# Altium footprint library EVP-ADK04K.PcbLib: 1 footprints
Each footprint in its own frame and in the unit in brackets; x right, y up, seen from the top. Pads: shape width x height; smd on the part's side, far side on the other; paste and mask are expansions set on the pad; w line width, h text height; cw(c..) or ccw(c..) is an arc to the next point about the centre after c.
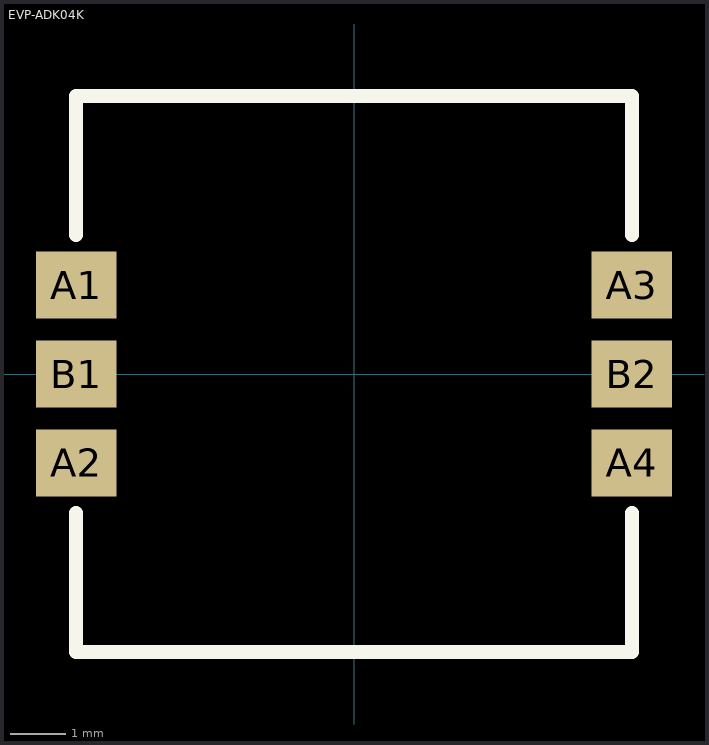
[diagram p0: the footprint, top view; thin cyan lines are the x and y axes]

## EVP-ADK04K [mm]
pads (6):
  rect 1.45x1.2 smd: A1(-5,1.6) A2(-5,-1.6) A3(5,1.6) A4(5,-1.6) B1(-5,0) B2(5,0)
Top Overlay:
  lines w0.254: -5,-2.5 -5,-5 5,-5 5,-2.5 ; -5,2.5 -5,5 5,5 5,2.5
3D body: height 3.2, standoff 0, extent -5,-5.1 5,5